# Altium schematic symbol library Nixie.SchLib: 1 symbol
Pins are listed as number, name and electrical type; pins without a type are passive.

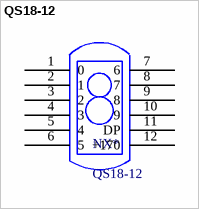
[diagram p0: symbol QS18-12]

## QS18-12
designator NX*
footprint PCBComponent_1
pins: 1 0, 2 1, 3 2, 4 3, 5 4, 6 5, 7 6, 8 7, 9 8, 10 9, 11 DP, 12 +170